# Altium footprint library Capacitors.PcbLib: 33 footprints (part 3 of 3)
Each footprint in its own frame and in the unit in brackets; x right, y up, seen from the top. Pads: shape width x height; smd on the part's side, far side on the other; paste and mask are expansions set on the pad; w line width, h text height; cw(c..) or ccw(c..) is an arc to the next point about the centre after c.
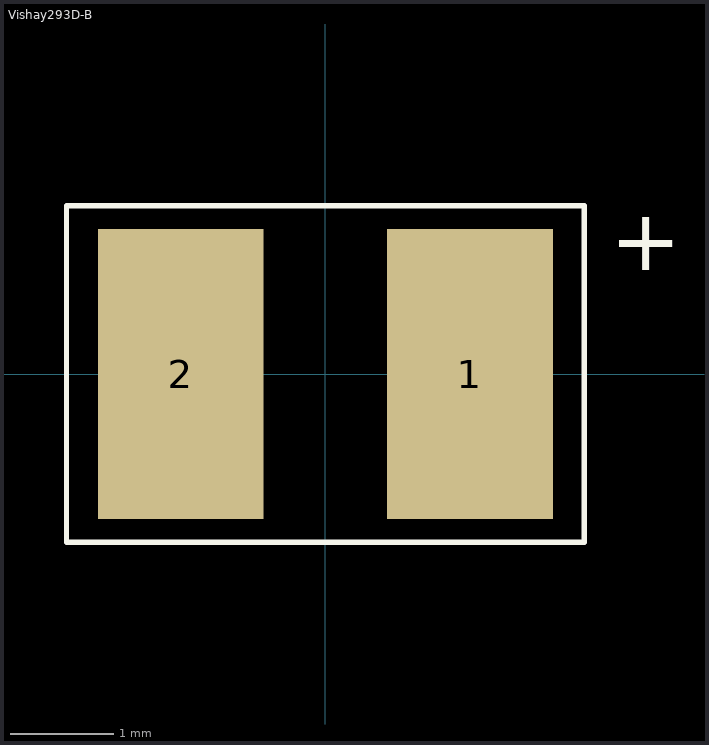
[diagram p2: the footprint, top view; thin cyan lines are the x and y axes]

## Vishay293D-B [mm]
height 1.6
pads (2):
  rect 1.6x2.8 smd: 1(1.397,0) 2(-1.397,0)
Top Overlay:
  lines w0.05: -2.5,-1.625 -2.5,1.625 2.5,1.625 2.5,-1.625 -2.5,-1.625
  text "+" at 2.75,1 h0.6
3D body: height 1.6, standoff 0, extent 1.25,-1.375 1.75,1.375
3D body: height 1.6, standoff 0, extent -1.75,-1.375 1.25,1.375